# Altium schematic symbol library L2N7002SLLT1G.SchLib: 1 symbol
Pins are listed as number, name and electrical type; pins without a type are passive.

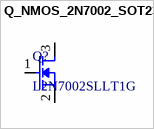
[diagram p0: symbol Q_NMOS_2N7002_SOT23]

## Q_NMOS_2N7002_SOT23
designator Q?, comment L2N7002SLLT1G
-55℃~+150℃ 1 N-channel 10pF 1V 2.8Ω@10V 35pF 380mA 420mW 440pC@4.5V 60V N-Channel SOT-23 MOSFETs ROHS
footprint Q_NMOS_2N7002_SOT23 (-55℃~+150℃ 1 N-channel 10pF 1V 2.8Ω@10V 35pF 380mA 420mW 440pC@4.5V 60V N-Channel SOT-23 MOSFETs ROHS)
pins: 1 G, 2 A, 3 D